# EAGLE library part TOTX173 (library andereBauteile)
TOTX173 Fiber Optic Transmitting Module TTL Interface LED is driven by differential circuit
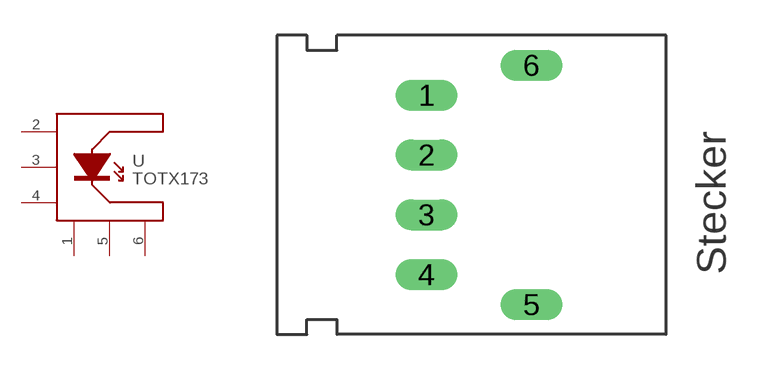
[diagram p3: symbol with the pads of TOTX173; footprint TOTX173]

Designator prefix -

## TOTX173  [TOTX173]
1  GND
2  LED_IN
3  VCC
4  INPUT
5  GEHAEUSE1
6  GEHAEUSE2

## Footprint TOTX173 (pad centres in mm)
drill 0.813 long: 1 0,3.81; 2 0,1.27; 3 0,-1.27; 4 0,-3.81; 5 4.445,-5.08; 6 4.445,5.08